# EAGLE library part UJ20-C-H-G-SMT-TR (library UJ20-C-H-G-SMT-TR)
Check availability <https://pricing.snapeda.com/parts/UJ20-C-H-G-SMT-TR/CUI%20Devices/view-part?ref=eda>
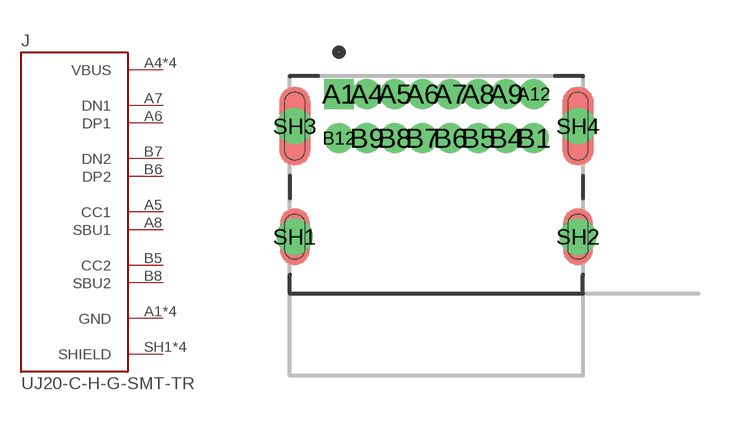
[diagram p0: symbol with the pads of CUI_UJ20-C-H-G-SMT-TR; footprint CUI_UJ20-C-H-G-SMT-TR]

Designator prefix J

## UJ20-C-H-G-SMT-TR (Availability: In Stock; CUI_purchase_URL: https://www.cuidevices.com/product/interconnect/connectors/usb-connectors/uj20-c-h-g-smt-tr?utm_source=snapeda.com&utm_medium=referral&utm_campaign=snapedaBOM; Check_prices: https://www.snapeda.com/parts/UJ20-C-H-G-SMT-TR/CUI+Devices/view-part/?ref=eda; Description: Type C, USB 2.0, 480 Mbps, 20 Vdc, 5 A, Right Angle, Gold Flash, Surface Mount, Black Insulator, USB Receptacle; MF: CUI Devices; MP: UJ20-C-H-G-SMT-TR; Package: None; Price: None; Purchase-URL: https://www.snapeda.com/api/url_track_click_mouser/?unipart_id=12123263&manufacturer=CUI Devices&part_name=UJ20-C-H-G-SMT-TR&search_term=uj20-c-h-g-smt-tr; SnapEDA_Link: https://www.snapeda.com/parts/UJ20-C-H-G-SMT-TR/CUI+Devices/view-part/?ref=snap)  [CUI_UJ20-C-H-G-SMT-TR]
A1  GND  pwr
A4  VBUS  pwr
A5  CC1
A6  DP1
A7  DN1
A8  SBU1
A9  VBUS  pwr
A12  GND  pwr
B1  GND  pwr
B4  VBUS  pwr
B5  CC2
B6  DP2
B7  DN2
B8  SBU2
B9  VBUS  pwr
B12  GND  pwr
SH1  SHIELD  pas
SH2  SHIELD  pas
SH3  SHIELD  pas
SH4  SHIELD  pas

## Footprint CUI_UJ20-C-H-G-SMT-TR (pad centres in mm)
drill 0.4 pad 0.65 square: A1 -2.975,4.025
drill 0.4 pad 0.65: A4 -2.125,4.025; A5 -1.275,4.025; A6 -0.425,4.025; A7 0.425,4.025; A8 1.275,4.025; A9 2.125,4.025; A12 2.975,4.025; B1 2.975,2.675; B4 2.125,2.675; B5 1.275,2.675; B6 0.425,2.675; B7 -0.425,2.675; B8 -1.275,2.675; B9 -2.125,2.675; B12 -2.975,2.675
drill 0.6 pad 0.9: SH1 -4.325,-0.335; SH2 4.325,-0.335; SH3 -4.325,3.045; SH4 4.325,3.045